# EAGLE library part STP1612PW05 (library carrilib)
16-Channel LED Driver with 16-Bit PWM Manufacturer: ST Micro Part Number: STP1612PW05
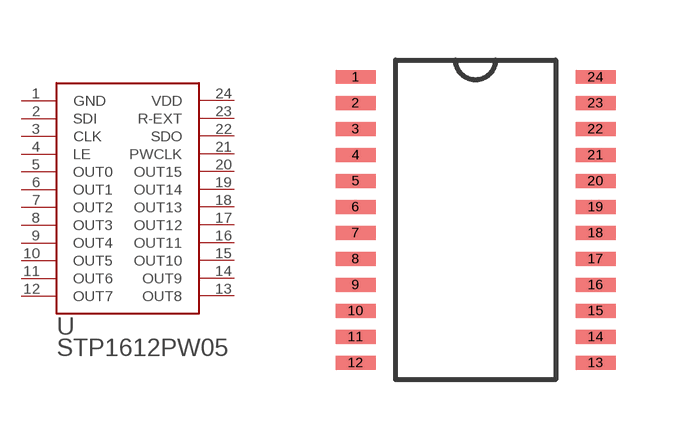
[diagram p26: symbol with the pads of TSSOP24; footprint TSSOP24]

Designator prefix U

## STP1612PW05TTR  [TSSOP24]
1  GND
2  SDI
3  CLK
4  LE
5  OUT0
6  OUT1
7  OUT2
8  OUT3
9  OUT4
10  OUT5
11  OUT6
12  OUT7
13  OUT8
14  OUT9
15  OUT10
16  OUT11
17  OUT12
18  OUT13
19  OUT14
20  OUT15
21  PWCLK
22  SDO
23  R-EXT
24  VDD

## Footprint TSSOP24 (pad centres in mm)
smd 1 x 0.35: 1 -3,3.575; 2 -3,2.925; 3 -3,2.275; 4 -3,1.625; 5 -3,0.975; 6 -3,0.325; 7 -3,-0.325; 8 -3,-0.975; 9 -3,-1.625; 10 -3,-2.275; 11 -3,-2.925; 12 -3,-3.575; 13 3,-3.575; 14 3,-2.925; 15 3,-2.275; 16 3,-1.625; 17 3,-0.975; 18 3,-0.325; 19 3,0.325; 20 3,0.975; 21 3,1.625; 22 3,2.275; 23 3,2.925; 24 3,3.575